# Altium schematic symbol library SRP5030CA-R56M.SchLib: 1 symbol
Pins are listed as number, name and electrical type; pins without a type are passive.

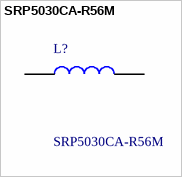
[diagram p0: symbol SRP5030CA-R56M]

## SRP5030CA-R56M
designator L?
Fixed Inductors 0.56uH20% 17.7A; Manufacturer_Name: Bourns; Geometry.Height: 3.1mm; element14 Part Number: *; element14 Price/Stock: *; Manufacturer_Part_Number: SRP5030CA-R56M; Datasheet Link: https://www.bourns.com/docs/Product-Datasheets/SRP5030CA.pdf
footprint SRP5030CAR56M
pins: 1, 2